# EAGLE library part C3004-02X3 (library Connetors_ACTIVE14)
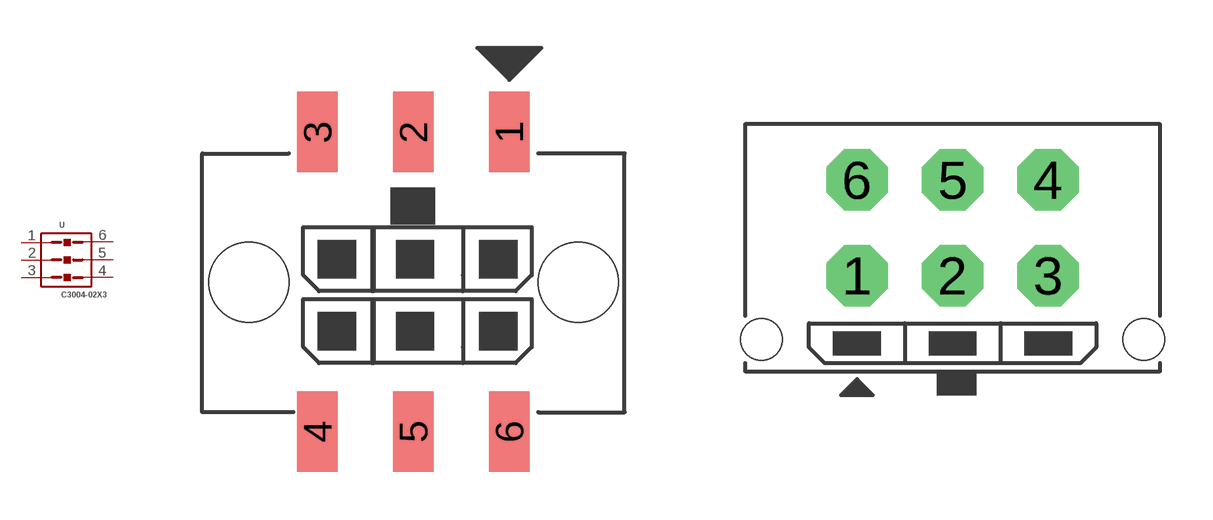
[diagram p7: symbol with the pads of C3004-SV02X3; footprints C3004-SV02X3, C3004-WV02X3]

Designator prefix -

## C3004-02X3SMT  [C3004-SV02X3]
1  1  pas
2  2  pas
3  3  pas
4  4  pas
5  5  pas
6  6  pas

## C3004-02X3TH  [C3004-WV02X3]
Pads as for C3004-SV02X3

## Footprint C3004-SV02X3 (pad centres in mm)
smd 1.27 x 2.51: 1 6,9.37; 2 3,9.37; 3 0,9.37; 4 0,0; 5 3,0; 6 6,0
hole 2.5 at -2.15,4.67
hole 2.5 at 8.15,4.67

## Footprint C3004-WV02X3 (pad centres in mm)
drill 1.02 pad 1.93 octagon: 1 0,0; 2 3,0; 3 6,0; 4 6,3; 5 3,3; 6 0,3
hole 1.3 at -3,-2
hole 1.3 at 9,-2